# EAGLE library part DSPIC33FJ64MC802-X_SO (library micromouse)
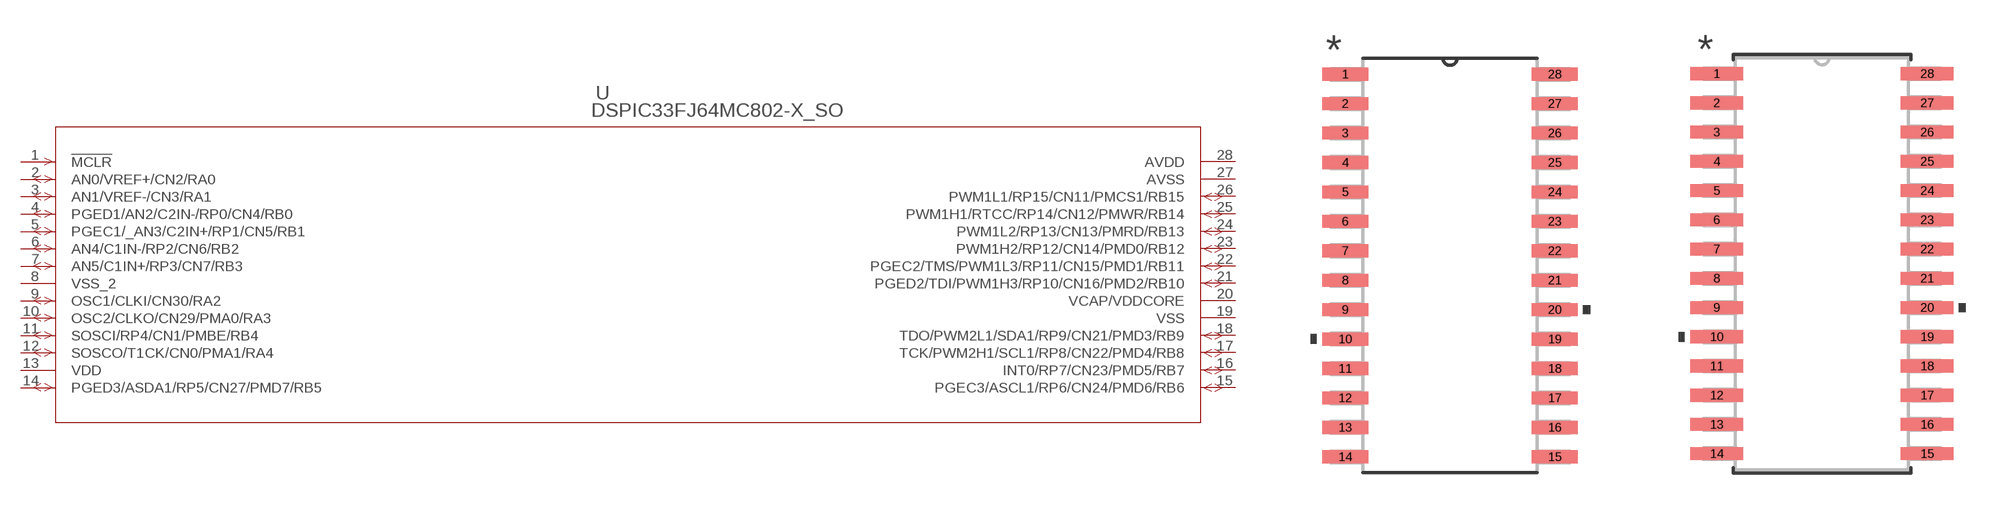
[diagram p0: symbol with the pads of SOIC28-W_MC; footprints SOIC28-W_MC, SOIC28-W_MC-M]

Designator prefix -

## DSPIC33FJ64MC802-X_SO  [SOIC28-W_MC]
1  !MCLR  in
2  AN0/VREF+/CN2/RA0
3  AN1/VREF-/CN3/RA1
4  PGED1/AN2/C2IN-/RP0/CN4/RB0
5  PGEC1/_AN3/C2IN+/RP1/CN5/RB1
6  AN4/C1IN-/RP2/CN6/RB2
7  AN5/C1IN+/RP3/CN7/RB3
8  VSS_2  pwr
9  OSC1/CLKI/CN30/RA2
10  OSC2/CLKO/CN29/PMA0/RA3
11  SOSCI/RP4/CN1/PMBE/RB4
12  SOSCO/T1CK/CN0/PMA1/RA4
13  VDD  pwr
14  PGED3/ASDA1/RP5/CN27/PMD7/RB5
15  PGEC3/ASCL1/RP6/CN24/PMD6/RB6
16  INT0/RP7/CN23/PMD5/RB7
17  TCK/PWM2H1/SCL1/RP8/CN22/PMD4/RB8
18  TDO/PWM2L1/SDA1/RP9/CN21/PMD3/RB9
19  VSS  pwr
20  VCAP/VDDCORE  pwr
21  PGED2/TDI/PWM1H3/RP10/CN16/PMD2/RB10
22  PGEC2/TMS/PWM1L3/RP11/CN15/PMD1/RB11
23  PWM1H2/RP12/CN14/PMD0/RB12
24  PWM1L2/RP13/CN13/PMRD/RB13
25  PWM1H1/RTCC/RP14/CN12/PMWR/RB14
26  PWM1L1/RP15/CN11/PMCS1/RB15
27  AVSS  pwr
28  AVDD  pwr

## DSPIC33FJ64MC802-X_SOSOIC28-W_MC-M  [SOIC28-W_MC-M]
Pads as for SOIC28-W_MC

## DSPIC33FJ64MC802-X_SOSOIC28-W_MC-L  [SOIC28-W_MC-L]
Pads as for SOIC28-W_MC

## Footprint SOIC28-W_MC (pad centres in mm)
smd 1.981 x 0.559: 1 -4.521,8.255; 2 -4.521,6.985; 3 -4.521,5.715; 4 -4.521,4.445; 5 -4.521,3.175; 6 -4.521,1.905; 7 -4.521,0.635; 8 -4.521,-0.635; 9 -4.521,-1.905; 10 -4.521,-3.175; 11 -4.521,-4.445; 12 -4.521,-5.715; 13 -4.521,-6.985; 14 -4.521,-8.255; 15 4.521,-8.255; 16 4.521,-6.985; 17 4.521,-5.715; 18 4.521,-4.445; 19 4.521,-3.175; 20 4.521,-1.905; 21 4.521,-0.635; 22 4.521,0.635; 23 4.521,1.905; 24 4.521,3.175; 25 4.521,4.445; 26 4.521,5.715; 27 4.521,6.985; 28 4.521,8.255

## Footprint SOIC28-W_MC-M (pad centres in mm)
smd 2.286 x 0.559: 1 -4.572,8.255; 2 -4.572,6.985; 3 -4.572,5.715; 4 -4.572,4.445; 5 -4.572,3.175; 6 -4.572,1.905; 7 -4.572,0.635; 8 -4.572,-0.635; 9 -4.572,-1.905; 10 -4.572,-3.175; 11 -4.572,-4.445; 12 -4.572,-5.715; 13 -4.572,-6.985; 14 -4.572,-8.255; 15 4.572,-8.255; 16 4.572,-6.985; 17 4.572,-5.715; 18 4.572,-4.445; 19 4.572,-3.175; 20 4.572,-1.905; 21 4.572,-0.635; 22 4.572,0.635; 23 4.572,1.905; 24 4.572,3.175; 25 4.572,4.445; 26 4.572,5.715; 27 4.572,6.985; 28 4.572,8.255

## Footprint SOIC28-W_MC-L (pad centres in mm)
smd 1.676 x 0.508: 1 -4.47,8.255; 2 -4.47,6.985; 3 -4.47,5.715; 4 -4.47,4.445; 5 -4.47,3.175; 6 -4.47,1.905; 7 -4.47,0.635; 8 -4.47,-0.635; 9 -4.47,-1.905; 10 -4.47,-3.175; 11 -4.47,-4.445; 12 -4.47,-5.715; 13 -4.47,-6.985; 14 -4.47,-8.255; 15 4.47,-8.255; 16 4.47,-6.985; 17 4.47,-5.715; 18 4.47,-4.445; 19 4.47,-3.175; 20 4.47,-1.905; 21 4.47,-0.635; 22 4.47,0.635; 23 4.47,1.905; 24 4.47,3.175; 25 4.47,4.445; 26 4.47,5.715; 27 4.47,6.985; 28 4.47,8.255